# EAGLE library part PIC32MX250F128B (library ME433)
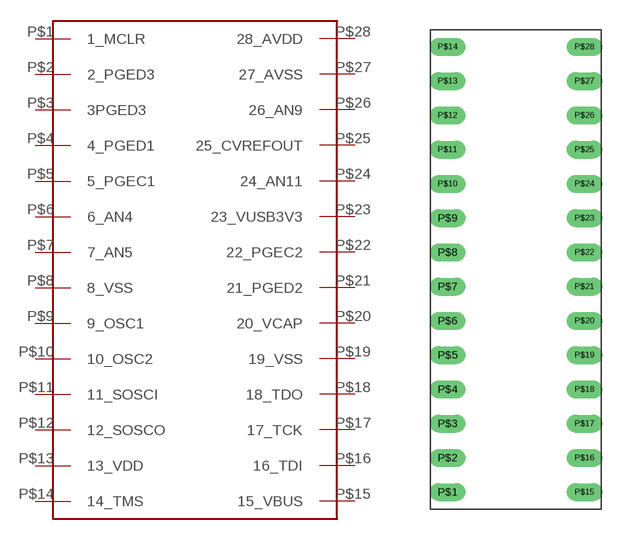
[diagram p17: symbol with the pads of PIC32MX250F128B; footprint PIC32MX250F128B]

Designator prefix -

## PIC32MX250F128B  [PIC32MX250F128B]
P$1  1_MCLR
P$2  2_PGED3
P$3  3PGED3
P$4  4_PGED1
P$5  5_PGEC1
P$6  6_AN4
P$7  7_AN5
P$8  8_VSS
P$9  9_OSC1
P$10  10_OSC2
P$11  11_SOSCI
P$12  12_SOSCO
P$13  13_VDD
P$14  14_TMS
P$15  15_VBUS
P$16  16_TDI
P$17  17_TCK
P$18  18_TDO
P$19  19_VSS
P$20  20_VCAP
P$21  21_PGED2
P$22  22_PGEC2
P$23  23_VUSB3V3
P$24  24_AN11
P$25  25_CVREFOUT
P$26  26_AN9
P$27  27_AVSS
P$28  28_AVDD

## Footprint PIC32MX250F128B (pad centres in mm)
drill 0.813 long: P$1 0,0; P$2 0,2.54; P$3 0,5.08; P$4 0,7.62; P$5 0,10.16; P$6 0,12.7; P$7 0,15.24; P$8 0,17.78; P$9 0,20.32; P$10 0,22.86; P$11 0,25.4; P$12 0,27.94; P$13 0,30.48; P$14 0,33.02; P$15 10.16,0; P$16 10.16,2.54; P$17 10.16,5.08; P$18 10.16,7.62; P$19 10.16,10.16; P$20 10.16,12.7; P$21 10.16,15.24; P$22 10.16,17.78; P$23 10.16,20.32; P$24 10.16,22.86; P$25 10.16,25.4; P$26 10.16,27.94; P$27 10.16,30.48; P$28 10.16,33.02